# Altium schematic symbol library SchematicComponents.SchLib: 1 symbol
Pins are listed as number, name and electrical type; pins without a type are passive.

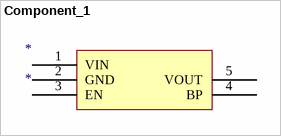
[diagram p0: symbol Component_1]

## Component_1
designator *
pins: 1 VIN (power), 2 GND (power), 3 EN (power), 4 BP (power), 5 VOUT (power)